# Altium schematic symbol library D.SchLib: 40 symbols
Pins are listed as number, name and electrical type; pins without a type are passive.

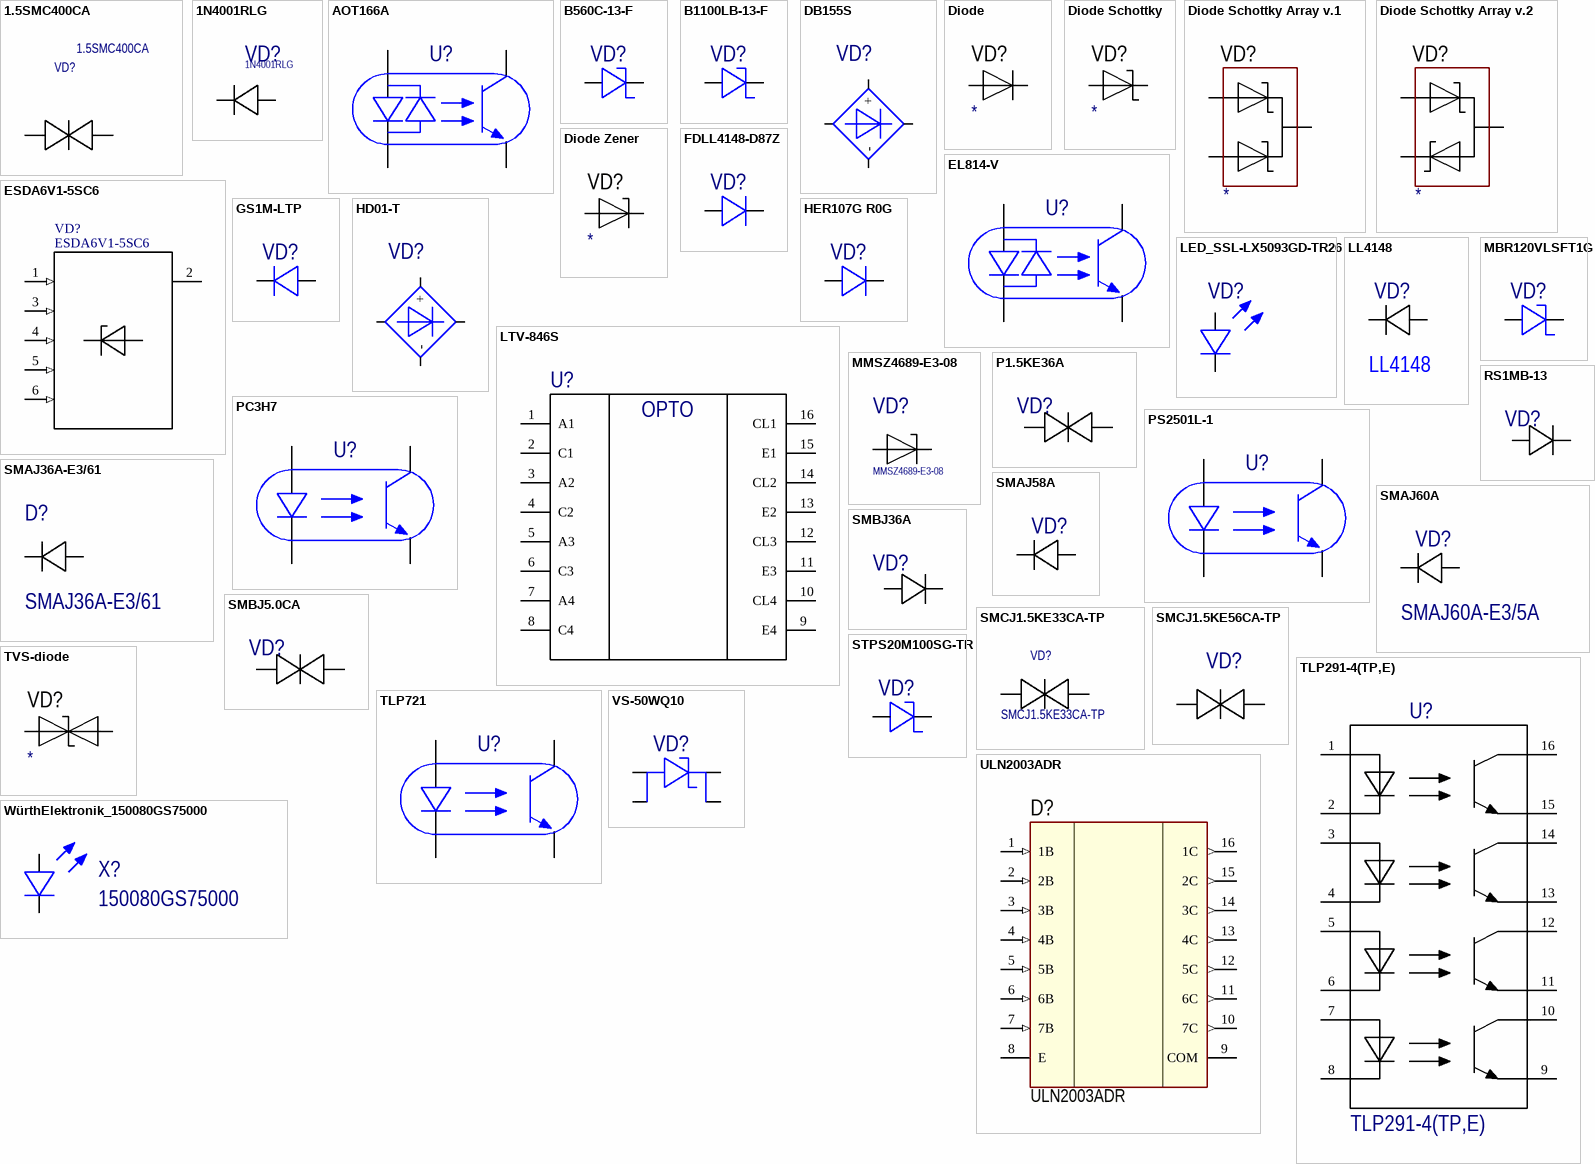
[diagram p0: symbols 1.5SMC400CA to WürthElektronik_150080GS75000]

## 1.5SMC400CA
designator VD?
TVS DIODE 342VWM 548VC SMD; Manufacturer: Littelfuse; Direction: Bidirectional; Reverse Breakdown Voltage: 380V; Operating Supply Voltage: 342V; Max Surge Current: 2.8A; Number of Channels: 1; Clamping Voltage: 548V; Peak Pulse Power: 1.5kW; Power Line Protection: No; Max Breakdown Voltage: 420V; Test Current: 1mA; Max Power Dissipation: 6.5W; Leakage Current: 5uA; Voltage Rating (DC): 400V; Diode Type: ZENER; Supplier 1: Digi-Key; Supplier Part Number 1: 1.5SMC400CACT-ND; Manufacturer Part Number: 1.5SMC400CA; RoHS: Yes; Category: TVS Diodes; Stock: 3917; Pricing: 1=0,98000, 10=0,87600, 100=0,68340, 500=0,56450, 1000=0,44566 (USD); Mount: Surface Mount; Case/Package: DO-214AB; Number of Pins: 2; Min Operating Temperature: -65°C; Max Operating Temperature: 150°C; Packaging: Tape and Reel; Package Quantity: 3000; Breakdown Voltage: 380V; Polarity: Bidirectional; Termination: SMD/SMT; Number of Bidirectional Channels: 1; Reverse Standoff Voltage: 342V; Min Breakdown Voltage: 380V; Number of Elements: 1; Peak Pulse Current: 2.8A; Power Dissipation: 1.5kW; Resistor Type: Zener; Series: 1.5SMC; Clamping Voltage-Max: 548V; Length: 8.13mm; Width: 6.22mm; Height: 2.62mm; Radiation Hardening: No; REACH SVHC: Unknown; Lead Free: Lead Free; RoHS Compliant: Yes; ComponentLink1URL: https://datasheet.ciiva.com/26787/1-5smc400ca-26787617.pdf?src-supplier=IIIC; ComponentLink1Description: https://datasheet.ciiva.com/26787/1-5smc400ca-26787617.pdf?src-supplier=IIIC; ComponentLink2URL: https://datasheet.ciiva.com/1275/littelfuse-tvs-diodes-1-5smc-1275685.pdf?src-supplier=Element14; ComponentLink2Description: https://datasheet.ciiva.com/1275/littelfuse-tvs-diodes-1-5smc-1275685.pdf?src-supplier=Element14; ComponentLink3URL: https://datasheet.ciiva.com/341/littelfuse-tvs-diode-1-5smc-datasheet-pdf-341244.pdf?src-supplier=Digi-Key; ComponentLink3Description: https://datasheet.ciiva.com/341/littelfuse-tvs-diode-1-5smc-datasheet-pdf-341244.pdf?src-supplier=Digi-Key; ComponentLink4URL: https://datasheet.ciiva.com/341/littelfuse-tvs-diode-1-5smc-datasheet-pdf-341245.pdf?src-supplier=Digi-Key; ComponentLink4Description: https://datasheet.ciiva.com/341/littelfuse-tvs-diode-1-5smc-datasheet-pdf-341245.pdf?src-supplier=Digi-Key; ComponentLink5URL: https://datasheet.ciiva.com/16301/littelfuse-tvs-diodes-1-5smc-16301085.pdf?src-supplier=Future+Electronics; ComponentLink5Description: https://datasheet.ciiva.com/16301/littelfuse-tvs-diodes-1-5smc-16301085.pdf?src-supplier=Future+Electronics
footprint SMC
pins: 1, 2

## 1N4001RLG
designator VD?
Diode Switching 50V 1A 2-Pin DO-41 T/R; Manufacturer: ON Semiconductor; Max Surge Current: 30A; Forward Voltage: 1.1V; Max Reverse Current: 10uA; Element Configuration: Single; Polarity: Standard; Diode Type: RECTIFIER; Supplier 1: Digi-Key; Manufacturer Part Number: 1N4001RLG; RoHS: Yes; Category: Rectifier Diodes; Stock 1: 36627; Pricing 1: 1=0,20000, 10=0,14000, 100=0,07580, 500=0,05952, 1000=0,04134, 2000=0,03425 (USD); Case/Package: DO-41; Number of Pins: 2; Contact Plating: Tin,Matte; Min Operating Temperature: -65°C; Max Operating Temperature: 175°C; Forward Current: 1A; Package Quantity: 1; Packaging: Tape and Reel; Average Rectified Current: 1A; Max Repetitive Reverse Voltage (Vrrm): 50V; Peak Non-Repetitive Surge Current: 30A; Max Forward Surge Current (Ifsm): 30A; Voltage Rating (DC): 50V; Current Rating: 1A; Output Current: 1A; Max Reverse Voltage (DC): 50V; Reverse Voltage: 50V; Series: -; Diameter: 2.7mm; Length: 5.2mm; Height: 5.2mm; Radiation Hardening: No; REACH SVHC: No SVHC; Lead Free: Lead Free; Halogen Free: Halogen Free; RoHS Compliant: Yes; ComponentLink1URL: https://datasheet.ciiva.com/30479/0900766b81221291-30479413.pdf?src-supplier=RSComponents; ComponentLink1Description: https://datasheet.ciiva.com/30479/0900766b81221291-30479413.pdf?src-supplier=RSComponents; ComponentLink2URL: https://datasheet.ciiva.com/27050/804480-27050138.pdf?src-supplier=Jameco; ComponentLink2Description: https://datasheet.ciiva.com/27050/804480-27050138.pdf?src-supplier=Jameco; ComponentLink3URL: https://datasheet.ciiva.com/3304/1n4001-d-3304182.pdf?src-supplier=Avnet; ComponentLink3Description: https://datasheet.ciiva.com/3304/1n4001-d-3304182.pdf?src-supplier=Avnet; ComponentLink4URL: https://datasheet.ciiva.com/8299/1n4001-d-8299703.pdf?src-supplier=Avnet; ComponentLink4Description: https://datasheet.ciiva.com/8299/1n4001-d-8299703.pdf?src-supplier=Avnet; ComponentLink5URL: https://datasheet.ciiva.com/915/1n4001-d-915353.pdf?src-supplier=Digi-Key; ComponentLink5Description: https://datasheet.ciiva.com/915/1n4001-d-915353.pdf?src-supplier=Digi-Key; ComponentLink6URL: https://datasheet.ciiva.com/915/1n4001-d-915354.pdf?src-supplier=Digi-Key; ComponentLink6Description: https://datasheet.ciiva.com/915/1n4001-d-915354.pdf?src-supplier=Digi-Key; ComponentLink7URL: https://datasheet.ciiva.com/7962/1n4001-d-7962911.pdf?src-supplier=Element14; ComponentLink7Description: https://datasheet.ciiva.com/7962/1n4001-d-7962911.pdf?src-supplier=Element14; ComponentLink8URL: https://datasheet.ciiva.com/25930/1n4001-d-25930431.pdf?src-supplier=Avnet+Europe; ComponentLink8Description: https://datasheet.ciiva.com/25930/1n4001-d-25930431.pdf?src-supplier=Avnet+Europe; Supplier Part Number 1: 1N4001RLGOSCT-ND
footprint DIOAD1060W80L410D260
footprint DIOAD300W80L410D260_VERTICAL
pins: 1 C, 2 A

## AOT166A
designator U?  (value not drawn)
OPTOISOLATOR TRANSISTOR DIP; Manufacturer: ОАО "Протон"; Manufacturer Part Number: AOT166A; TH: 1
footprint DIP6
pins: 1, 2, 4, 6

## B560C-13-F
designator VD?  (value not drawn)
DIODE SCHOTTKY 60V 5A SMC; Manufacturer: Diodes Incorporated; Manufacturer Part Number: B560C-13-F; SMD: 1
footprint DO-214AB(SMC) (Molded Diode, 2-Leads, Body 7,80x5,90mm, IPC Low Density)
pins: 1, 2

## B1100LB-13-F
designator VD?  (value not drawn)
DIODE SCHOTTKY 100V 1A SMB; Manufacturer: Diodes Incorporated; Manufacturer Part Number: B1100LB-13-F; SMD: 1
footprint DO-214AA(SMB) (Molded Diode, 2-Leads, Body 4,38x3,62mm, IPC Medium Density)
pins: A, K

## DB155S
designator VD?  (value not drawn)
BRIDGE RECT 1P 600V 1.5A DB-1S; Manufacturer: Rectron; Manufacturer Part Number: DB155S; SMD: 1
footprint SOP520P1040X250-4M(DB-LS) (SOP, 4-Leads, Body 8,51x6,50mm, Pitch 5,20mm, IPC Low Density)
pins: 1 ~, 2 ~, 3 +, 4 -

## Diode
designator VD?
Manufacturer: *; Model: *; ComponentKind: *; HelpURL: *
footprint SMA
footprint SMB
footprint SMC
footprint SOD80
footprint SOD123
footprint SOD123F (Schottky Diode, 2-Leads, Body 3x2mm, 0.4W)
footprint SOD123W
footprint SOD323
footprint SOD-80 (MELF Diode, 2-Leads, Body 3,50x1,50mm, IPC Low Density)
footprint SOD-123 (SODFL, 2-Leads, Body 1,55x3,70mm, IPC Medium Density)
footprint SOT23_123 (SOT23, 3-Leads, Body 3,0x2,6mm (max), Pitch 0,95mm, IPC Medium Density)
footprint SOT23_132 (SOT23, 3-Leads, Body 3,0x2,6mm (max), Pitch 0,95mm, IPC Medium Density)
footprint SOT23_231 (SOT23, 3-Leads, Body 3,0x2,6mm (max), Pitch 0,95mm, IPC Medium Density)
footprint SOT23_321 (SOT23, 3-Leads, Body 3,0x2,6mm (max), Pitch 0,95mm, IPC Medium Density)
footprint TO220-2
footprint TO220FPAC
footprint TO247_13 (3-Lead Plastic TO-247)
pins: 1 A, 2 C

## Diode Schottky
designator VD?
Manufacturer: *; ComponentKind: *; Model: *; HelpURL: *
footprint SMA
footprint SMB
footprint SMC
footprint SOD80
footprint SOD123
footprint SOD123F (Schottky Diode, 2-Leads, Body 3x2mm, 0.4W)
footprint SOD123W
footprint SOD323
footprint SOD-80 (MELF Diode, 2-Leads, Body 3,50x1,50mm, IPC Low Density)
footprint SOD-123 (SODFL, 2-Leads, Body 1,55x3,70mm, IPC Medium Density)
footprint SOT23_123 (SOT23, 3-Leads, Body 3,0x2,6mm (max), Pitch 0,95mm, IPC Medium Density)
footprint SOT23_132 (SOT23, 3-Leads, Body 3,0x2,6mm (max), Pitch 0,95mm, IPC Medium Density)
footprint SOT23_231 (SOT23, 3-Leads, Body 3,0x2,6mm (max), Pitch 0,95mm, IPC Medium Density)
footprint SOT23_321 (SOT23, 3-Leads, Body 3,0x2,6mm (max), Pitch 0,95mm, IPC Medium Density)
footprint TO220-2
footprint TO220FPAC
footprint TO247_13 (3-Lead Plastic TO-247)
footprint DO221AA
footprint DPAK - 21 (D-Pak, Body 6,2x6,7mm)
footprint TO220-2 _H
pins: 1 A, 2 C

## Diode Schottky Array v.1
designator VD?
Manufacturer: *; ComponentKind: *; Model: *; HelpURL: *
footprint SOT23_123 (SOT23, 3-Leads, Body 3,0x2,6mm (max), Pitch 0,95mm, IPC Medium Density)
footprint SOT23_132 (SOT23, 3-Leads, Body 3,0x2,6mm (max), Pitch 0,95mm, IPC Medium Density)
footprint SOT23_231 (SOT23, 3-Leads, Body 3,0x2,6mm (max), Pitch 0,95mm, IPC Medium Density)
footprint SOT23_321 (SOT23, 3-Leads, Body 3,0x2,6mm (max), Pitch 0,95mm, IPC Medium Density)
footprint DPAK - 21 (D-Pak, Body 6,2x6,7mm)
footprint D2PAK (D-PAK, 3-Pads, Body 6,2x6,7mm (max), IPC Medium Density)
footprint D2PAK_132 (D-PAK, 3-Pads, Body 6,2x6,7mm (max), IPC Medium Density)
footprint DPAK (D-Pak, Body 6,2x6,7mm)
footprint DPAK_132 (D-Pak, Body 6,2x6,7mm)
pins: 1 A, 2 C, 3 A

## Diode Schottky Array v.2
designator VD?
Manufacturer: *; ComponentKind: *; Model: *; HelpURL: *
footprint SOT23_123 (SOT23, 3-Leads, Body 3,0x2,6mm (max), Pitch 0,95mm, IPC Medium Density)
footprint SOT23_132 (SOT23, 3-Leads, Body 3,0x2,6mm (max), Pitch 0,95mm, IPC Medium Density)
footprint SOT23_231 (SOT23, 3-Leads, Body 3,0x2,6mm (max), Pitch 0,95mm, IPC Medium Density)
footprint SOT23_321 (SOT23, 3-Leads, Body 3,0x2,6mm (max), Pitch 0,95mm, IPC Medium Density)
footprint DPAK - 21 (D-Pak, Body 6,2x6,7mm)
footprint D2PAK (D-PAK, 3-Pads, Body 6,2x6,7mm (max), IPC Medium Density)
footprint D2PAK_132 (D-PAK, 3-Pads, Body 6,2x6,7mm (max), IPC Medium Density)
footprint DPAK (D-Pak, Body 6,2x6,7mm)
footprint DPAK_132 (D-Pak, Body 6,2x6,7mm)
pins: 1 A, 2 AC, 3 C

## Diode Zener
designator VD?
Manufacturer: *; ComponentKind: *; Model: *; HelpURL: *
footprint SMA
footprint SMB
footprint SMC
footprint SOD80
footprint SOD123
footprint SOD123F (Schottky Diode, 2-Leads, Body 3x2mm, 0.4W)
footprint SOD123W
footprint SOD323
footprint SOD-80 (MELF Diode, 2-Leads, Body 3,50x1,50mm, IPC Low Density)
footprint SOD-123 (SODFL, 2-Leads, Body 1,55x3,70mm, IPC Medium Density)
footprint SOT23_123 (SOT23, 3-Leads, Body 3,0x2,6mm (max), Pitch 0,95mm, IPC Medium Density)
footprint SOT23_132 (SOT23, 3-Leads, Body 3,0x2,6mm (max), Pitch 0,95mm, IPC Medium Density)
footprint SOT23_231 (SOT23, 3-Leads, Body 3,0x2,6mm (max), Pitch 0,95mm, IPC Medium Density)
footprint SOT23_321 (SOT23, 3-Leads, Body 3,0x2,6mm (max), Pitch 0,95mm, IPC Medium Density)
footprint DO221AA
footprint DPAK - 21 (D-Pak, Body 6,2x6,7mm)
footprint MELF(DO213AB)
pins: 1 A, 2 C

## EL814-V
designator U?  (value not drawn)
OPTOISOLTR 5KV TRANSISTOR 4-DIP; Manufacturer: Everlight Electronics Co Ltd; Manufacturer Part Number: EL814-V; TH: 1
footprint DIP4
pins: 1, 2, 3, 4

## ESDA6V1-5SC6
designator VD?
TVS DIODE 3V 5 CHANNEL SOT23-6; Manufacturer: STMicroelectronics; MF: {'manufacturer': u'STMicroelectronics'}; Direction: Unidirectional; Number of Elements: 5; Capacitance: 50pF; Reverse Breakdown Voltage: 6.1V; Element Configuration: Common Anode; Peak Pulse Power: 100W; Power Line Protection: No; ESD Protection: Yes; Max Reverse Leakage Current: 1uA; Test Current: 1mA; Max Breakdown Voltage: 7.2V; Clamping Voltage: 11.35V; Peak Pulse Current: 15A; Diode Type: ZENER; Value: *; MP: ESDA6V1-5SC6; Availability: Unavailable; Package: None; Price: None; Supplier 1: Digi-Key; Manufacturer Part Number: ESDA6V1-5SC6; RoHS: Yes; Category: TVS Diodes; Stock 1: 11790; Pricing 1: 1=0,44000, 10=0,37500, 100=0,26070, 500=0,20356, 1000=0,18920 (USD); Mount: Surface Mount; Case/Package: SOT-23; Number of Pins: 6; Min Operating Temperature: -40°C; Max Operating Temperature: 125°C; Package Quantity: 1; Packaging: Tape and Reel; Number of Channels: 5; Operating Supply Voltage: 3V; Number of Unidirectional Channels: 5; Reverse Standoff Voltage: 3V; Min Breakdown Voltage: 6.1V; Polarity: Unidirectional; Breakdown Voltage: 6.1V; Termination: SMD/SMT; Working Voltage: 3V; Max Power Dissipation: 100W; Leakage Current: 1uA; Voltage Rating (DC): 6.1V; Resistor Type: Zener; Series: ESDA, TRANSIL™; Length: 3.05mm; Width: 1.75mm; Height: 1.3mm; Depth: 1.75mm; Radiation Hardening: No; REACH SVHC: No SVHC; Lead Free: Lead Free; RoHS Compliant: Yes; ComponentLink1URL: https://datasheet.ciiva.com/5782/453742-5782854.pdf?src-supplier=Farnell; ComponentLink1Description: https://datasheet.ciiva.com/5782/453742-5782854.pdf?src-supplier=Farnell; ComponentLink2URL: https://datasheet.ciiva.com/15143/getdatasheetpartid-146092-15143750.pdf?src-supplier=Verical; ComponentLink2Description: https://datasheet.ciiva.com/15143/getdatasheetpartid-146092-15143750.pdf?src-supplier=Verical; ComponentLink3URL: https://datasheet.ciiva.com/16210/cd00005102-16210854.pdf?src-supplier=Future+Electronics; ComponentLink3Description: https://datasheet.ciiva.com/16210/cd00005102-16210854.pdf?src-supplier=Future+Electronics; ComponentLink4URL: https://datasheet.ciiva.com/14161/esda6v1l-st-eng-tds-14161530.pdf?src-supplier=Distrelec; ComponentLink4Description: https://datasheet.ciiva.com/14161/esda6v1l-st-eng-tds-14161530.pdf?src-supplier=Distrelec; ComponentLink5URL: https://datasheet.ciiva.com/4507/cd00005102-58005-4507934.pdf?src-supplier=Mouser; ComponentLink5Description: https://datasheet.ciiva.com/4507/cd00005102-58005-4507934.pdf?src-supplier=Mouser; ComponentLink6URL: https://datasheet.ciiva.com/338/cd00005102-338720.pdf?src-supplier=Digi-Key; ComponentLink6Description: https://datasheet.ciiva.com/338/cd00005102-338720.pdf?src-supplier=Digi-Key; ComponentLink7URL: https://datasheet.ciiva.com/22695/453742-22695670.pdf?src-supplier=Element14; ComponentLink7Description: https://datasheet.ciiva.com/22695/453742-22695670.pdf?src-supplier=Element14; ComponentLink8URL: https://datasheet.ciiva.com/7662/453742-7662123.pdf?src-supplier=Element14; ComponentLink8Description: https://datasheet.ciiva.com/7662/453742-7662123.pdf?src-supplier=Element14; ComponentLink9URL: https://datasheet.ciiva.com/1276/453742-1276863.pdf?src-supplier=Element14; ComponentLink9Description: https://datasheet.ciiva.com/1276/453742-1276863.pdf?src-supplier=Element14; ComponentLink10URL: https://datasheet.ciiva.com/41443/001184254-da-01-en-transil-array-esda6v1-5sc6-sot-23-6-stm-41443467.pdf?src-supplier=Conrad; ComponentLink10Description: https://datasheet.ciiva.com/41443/001184254-da-01-en-transil-array-esda6v1-5sc6-sot-23-6-stm-41443467.pdf?src-supplier=Conrad; Supplier Part Number 1: 497-7747-1-ND
footprint SOT95P280X145-6N
pins: 1 IO1 (in), 2 GND (power), 3 IO2 (in), 4 IO3 (in), 5 IO4 (in), 6 IO5 (in)

## FDLL4148-D87Z
designator VD?  (value not drawn)
DIODE GEN PURP 100V 200MA SOD80; Manufacturer: ON Semiconductor; Manufacturer Part Number: FDLL4148-D87Z; SMD: 1
footprint SOD-80 (MELF Diode, 2-Leads, Body 3,50x1,50mm, IPC Low Density)
pins: A, K

## GS1M-LTP
designator VD?  (value not drawn)
DIODE GEN PURP 1KV 1A DO214AC; Manufacturer: Micro Commercial Components (MCC); Manufacturer Part Number: GS1M-LTP; SMD: 1
footprint DO-214AC(SMA) (Molded Diode, 2-Leads, Body 4,29x2,59mm, IPC Low Density)
pins: 1 K, 2 A

## HD01-T
designator VD?  (value not drawn)
BRIDGE RECT 1P 100V 800MA 4-DIP; Manufacturer: Diodes Incorporated; Manufacturer Part Number: HD01-T; SMD: 1
footprint MiniDIP-4 (SOP, 4-Leads, Body 4,70x3,80mm, Pitch 2,54mm, IPC Low Density)
pins: 1 ~, 2 ~, 3 +, 4 -

## HER107G R0G
designator VD?  (value not drawn)
DIODE GEN PURP 800V 1A DO204AL; Manufacturer: Taiwan Semiconductor Corporation; Manufacturer Part Number: HER107G R0G; TH: 1
footprint DO-204AL
pins: A, K

## LED_SSL-LX5093GD-TR26
designator VD?  (value not drawn)
LED GREEN DIFFUSED T-1 3/4 T/H; Manufacturer: Lumex; Manufacturer Part Number: SSL-LX5093GD-TR26; TH: 1
footprint LED500
pins: A, K

## LL4148
designator VD?
ON SEMICONDUCTOR - LL4148 - Small Signal Diode, Single, 100 V, 200 mA, 1 V, 4 ns, 2 A; Reverse Recovery Time: 4ns; Forward Voltage: 1V; Forward Current: 200mA; Peak Non-Repetitive Surge Current: 2A; Max Repetitive Reverse Voltage (Vrrm): 100V; Max Reverse Current: 25nA; Power Dissipation: 500mW; Manufacturer: ON Semiconductor; Manufacturer Part Number: LL4148; SMD: 1; Supplier 1: Digi-Key; RoHS: Yes; Category: Rectifier Diodes; Stock 1: 332564; Pricing 1: 1=0,10000, 10=0,08800, 100=0,03690, 500=0,02894, 1000=0,02010 (USD); Mount: Surface Mount; Number of Pins: 2; Weight: 0.01lb; Contact Plating: Tin,Matte; Min Operating Temperature: -65°C; Max Operating Temperature: 175°C; Packaging: Tape and Reel; Element Configuration: Single; Max Reverse Voltage (DC): 100V; Average Rectified Current: 200mA; Package Quantity: 2500; Max Forward Surge Current (Ifsm): 2A; Max Surge Current: 2A; Recovery Time: 4ns; Voltage: 100V; Reverse Voltage: 100V; Length: 3.6mm; Width: 1.5mm; Height: 1.5mm; Radiation Hardening: No; Lead Free: Lead Free; REACH SVHC: No SVHC; ComponentLink1URL: https://datasheet.ciiva.com/1181/1730036-1181026.pdf?src-supplier=Element14; ComponentLink1Description: https://datasheet.ciiva.com/1181/1730036-1181026.pdf?src-supplier=Element14; ComponentLink2URL: https://datasheet.ciiva.com/8303/ll4148-8303779.pdf?src-supplier=Avnet; ComponentLink2Description: https://datasheet.ciiva.com/8303/ll4148-8303779.pdf?src-supplier=Avnet; ComponentLink3URL: https://datasheet.ciiva.com/27048/94908-27048041.pdf?src-supplier=Jameco; ComponentLink3Description: https://datasheet.ciiva.com/27048/94908-27048041.pdf?src-supplier=Jameco; ComponentLink4URL: https://datasheet.ciiva.com/4453/ll4148-70504-4453114.pdf?src-supplier=Mouser; ComponentLink4Description: https://datasheet.ciiva.com/4453/ll4148-70504-4453114.pdf?src-supplier=Mouser; ComponentLink5URL: https://datasheet.ciiva.com/910/ll4148-910343.pdf?src-supplier=Digi-Key; ComponentLink5Description: https://datasheet.ciiva.com/910/ll4148-910343.pdf?src-supplier=Digi-Key; ComponentLink6URL: https://datasheet.ciiva.com/910/ll4148-910344.pdf?src-supplier=Digi-Key; ComponentLink6Description: https://datasheet.ciiva.com/910/ll4148-910344.pdf?src-supplier=Digi-Key; ComponentLink7URL: https://datasheet.ciiva.com/910/ll4148-910345.pdf?src-supplier=Digi-Key; ComponentLink7Description: https://datasheet.ciiva.com/910/ll4148-910345.pdf?src-supplier=Digi-Key; ComponentLink8URL: https://datasheet.ciiva.com/22735/1896420-22735578.pdf?src-supplier=Element14; ComponentLink8Description: https://datasheet.ciiva.com/22735/1896420-22735578.pdf?src-supplier=Element14; ComponentLink9URL: https://datasheet.ciiva.com/26912/getdatasheetpartid-110057-26912779.pdf?src-supplier=Verical; ComponentLink9Description: https://datasheet.ciiva.com/26912/getdatasheetpartid-110057-26912779.pdf?src-supplier=Verical; ComponentLink10URL: https://datasheet.ciiva.com/8053/1896420-8053645.pdf?src-supplier=Element14; ComponentLink10Description: https://datasheet.ciiva.com/8053/1896420-8053645.pdf?src-supplier=Element14; Supplier Part Number 1: LL4148FSCT-ND
footprint SOD-80 (MELF Diode, 2-Leads, Body 3,50x1,50mm, IPC Low Density)
pins: A, K

## LTV-846S
designator U?
OPTOISOLATOR TRANSISTOR 4 CHANNEL SMD; Manufacturer: Lite-On; Manufacturer Part Number: LTV-846S; TH: 1
footprint LTV846S (SOP, 16-Leads, Body 19,84x6,25mm, Pitch 2,54mm, IPC Low Density)
pins: 1 A1, 2 C1, 3 A2, 4 C2, 5 A3, 6 C3, 7 A4, 8 C4, 9 E4, 10 CL4, 11 E3, 12 CL3, 13 E2, 14 CL2, 15 E1, 16 CL1
text: OPTO

## MBR120VLSFT1G
designator VD?  (value not drawn)
DIODE SCHOTTKY 20V 1A SOD123FL; Manufacturer: ON Semiconductor; Manufacturer Part Number: MBR120VLSFT1G; SMD: 1
footprint SOD-123 (SODFL, 2-Leads, Body 1,55x3,70mm, IPC Medium Density)
pins: A, K

## MMSZ4689-E3-08
designator VD?
DIODE ZENER 5.1V 500MW SOD123; Manufacturer: Vishay; Element Configuration: Single; Max Reverse Leakage Current: 10uA; Voltage Tolerance: 5%; Supplier 1: Avnet; Manufacturer Part Number: MMSZ4689-E3-08; RoHS: Yes; Category: Zener Diodes; Stock 1: 2671; Pricing 1: 1=0,22500, 25=0,18500, 50=0,13300, 100=0,08100, 250=0,07500, 500=0,06800, 1000=0,04800 (USD); Mount: Surface Mount; Number of Pins: 2; Min Operating Temperature: -55°C; Max Operating Temperature: 150°C; Max Power Dissipation: 500mW; Zener Voltage: 5.1V; Packaging: Tape and Reel; Package Quantity: 3000; Zener Current: 10uA; Tolerance: 5%; Power Dissipation: 500mW; Max Reverse Current: 10uA; Working Voltage: 5.1V; Radiation Hardening: No; RoHS Compliant: Yes; REACH SVHC: Unknown; ComponentLink1URL: https://datasheet.ciiva.com/28646/1809889-28646343.pdf?src-supplier=Element14; ComponentLink1Description: https://datasheet.ciiva.com/28646/1809889-28646343.pdf?src-supplier=Element14; ComponentLink2URL: https://datasheet.ciiva.com/24152/mmsz4681-24152103.pdf?src-supplier=Future+Electronics; ComponentLink2Description: https://datasheet.ciiva.com/24152/mmsz4681-24152103.pdf?src-supplier=Future+Electronics; Supplier Part Number 1: 12X8033
footprint SOD123
pins: 1 A, 2 C

## P1.5KE36A
designator VD?  (value not drawn)
TVS DIODE 30.8VWM 64.3VC DO201; Manufacturer: STMicroelectronics; Manufacturer Part Number: 1.5KE36A; TH: 1
footprint DO-201
pins: A, K

## PC3H7
designator U?  (value not drawn)
OPTOISOLATOR TRANSISTOR SMD; Manufacturer: SHARP/Socle Technology; Manufacturer Part Number: PC3H710NIP1H; SMD: 1
footprint SOIC-4 127P680X220-4M (SOIC, 4-Leads, Body 2,60x4,40mm, Pitch 1,27mm, IPC Low Density)
pins: 1, 2, 3, 4

## PS2501L-1
designator U?  (value not drawn)
OPTOISOLATOR TRANSISTOR SMD; Manufacturer: NEC; Manufacturer Part Number: PS2501L-1; SMD: 1
footprint SOP254P960X380-4M-PS2501L-1 (SOP, 4-Leads, Body 4,60x6,50mm, Pitch 2,54mm, IPC Low Density)
pins: 1, 2, 3, 4

## RS1MB-13
designator VD?  (value not drawn)
DIODE GEN PURP 1KV 1A SMB; Manufacturer: Diodes Incorporated; Manufacturer Part Number: RS1MB-13; SMD: 1
footprint DO-214AA(SMB) (Molded Diode, 2-Leads, Body 4,38x3,62mm, IPC Medium Density)
pins: A, K

## SMAJ36A-E3/61
designator D?
DIODE TVS,  SMAJ36A; Manufacturer: Vishay Semiconductors; Clamping Voltage: 58.1V; Peak Pulse Power: 400W; Polarity: Unidirectional; Breakdown Voltage: 40V; Reverse Standoff Voltage: 36V; Peak Pulse Current: 6.9A; Test Current: 1mA; Number of Channels: 1; Leakage Current: 1uA; Element Configuration: Single; Max Breakdown Voltage: 44.2V; Max Forward Surge Current (Ifsm): 40A; Supplier 1: Avnet; Manufacturer Part Number: SMAJ36A-E3/61; RoHS: Yes; Category: TVS Diodes; Stock 1: 5400; Pricing 1: 1800=0,08960, 3600=0,08890, 7200=0,08820, 10800=0,08750, 14400=0,08680, 18000=0,08610, 180000=0,08540 (USD); Case/Package: SMA; Number of Pins: 2; Contact Plating: Tin,Matte; Min Operating Temperature: -55°C; Max Operating Temperature: 150°C; Packaging: Tape and Reel; Max Surge Current: 6.9A; Package Quantity: 1800; Operating Supply Voltage: 36V; Reverse Breakdown Voltage: 40V; Number of Elements: 1; Min Breakdown Voltage: 40V; Termination: SMD/SMT; Max Power Dissipation: 400W; Direction: Unidirectional; Max Reverse Leakage Current: 1uA; Voltage Rating (DC): 36V; Series: SMAJ; Power Dissipation: 400W; Clamping Voltage-Max: 58.1V; Length: 4.5mm; Width: 2.79mm; Height: 2.09mm; Radiation Hardening: No; RoHS Compliant: Yes; Lead Free: Lead Free; REACH SVHC: Unknown; ComponentLink1URL: https://datasheet.ciiva.com/4248/2smaj50a-4248186.pdf?src-supplier=Arrow+Electronics; ComponentLink1Description: https://datasheet.ciiva.com/4248/2smaj50a-4248186.pdf?src-supplier=Arrow+Electronics; ComponentLink2URL: https://datasheet.ciiva.com/26912/getdatasheetpartid-134604-26912416.pdf?src-supplier=Verical; ComponentLink2Description: https://datasheet.ciiva.com/26912/getdatasheetpartid-134604-26912416.pdf?src-supplier=Verical; ComponentLink3URL: https://datasheet.ciiva.com/16371/smaj50a-16371318.pdf?src-supplier=Future+Electronics; ComponentLink3Description: https://datasheet.ciiva.com/16371/smaj50a-16371318.pdf?src-supplier=Future+Electronics; ComponentLink4URL: https://datasheet.ciiva.com/4508/smaj50a-241759-4508311.pdf?src-supplier=Mouser; ComponentLink4Description: https://datasheet.ciiva.com/4508/smaj50a-241759-4508311.pdf?src-supplier=Mouser; ComponentLink5URL: https://datasheet.ciiva.com/26322/548547-26322554.pdf?src-supplier=Element14; ComponentLink5Description: https://datasheet.ciiva.com/26322/548547-26322554.pdf?src-supplier=Element14; Supplier Part Number 1: SMAJ36A-E3/61
footprint DO-214AC(SMA) (Molded Diode, 2-Leads, Body 4,29x2,59mm, IPC Low Density)
pins: 1 K, 2 A

## SMAJ58A
designator VD?  (value not drawn)
TVS DIODE 58V 93.6V DO214AC; Manufacturer Part Number: SMAJ58A; Manufacturer: Bourns; SMD: 1
footprint DO-214AC(SMA) (Molded Diode, 2-Leads, Body 4,29x2,59mm, IPC Low Density)
pins: 1 K, 2 A

## SMAJ60A
designator VD?, comment SMAJ60A-E3/5A
TRANSIENT SUPPRESSOR DIODE,SINGLE,UNIDIRECTIONAL,60V V(RWM),DO-214AC / SMA; Manufacturer: Vishay Semiconductors; Clamping Voltage: 96.8V; Peak Pulse Power: 400W; Peak Pulse Current: 4.1A; Breakdown Voltage: 66.7V; Test Current: 1mA; Number of Elements: 1; Leakage Current: 1uA; Power Line Protection: No; Diode Type: ZENER; Max Breakdown Voltage: 73.7V; Max Forward Surge Current (Ifsm): 40A; Clamping Voltage-Max: 96.8kV; Manufacturer Part Number: SMAJ60A-E3/5A; Supplier 1: Mouser; RoHS: Yes; Category: TVS Diodes; Stock 1: 4121; Pricing 1: 1=0,36000, 10=0,25600, 50=0,25600, 100=0,14900, 1000=0,09000, 10000=0,06900 (USD); Case/Package: DO-214AC; Number of Pins: 2; Min Operating Temperature: -55°C; Max Operating Temperature: 150°C; Packaging: Tape and Reel; Polarity: Unidirectional; Reverse Standoff Voltage: 60V; Package Quantity: 7500; Max Surge Current: 4.1A; Min Breakdown Voltage: 66.7V; Reverse Breakdown Voltage: 66.7V; Operating Supply Voltage: 60V; Number of Channels: 1; Series: TransZorb®; Direction: Unidirectional; Number of Unidirectional Channels: 1; Max Reverse Leakage Current: 1uA; Element Configuration: Single; Resistor Type: Zener; Power Dissipation: 400W; RoHS Compliant: Yes; Lead Free: Lead Free; ComponentLink1URL: https://datasheet.ciiva.com/4514/smaj50a-241759-4514843.pdf?src-supplier=Mouser; ComponentLink1Description: https://datasheet.ciiva.com/4514/smaj50a-241759-4514843.pdf?src-supplier=Mouser; ComponentLink2URL: https://datasheet.ciiva.com/16487/smaj50a-16487486.pdf?src-supplier=Future+Electronics; ComponentLink2Description: https://datasheet.ciiva.com/16487/smaj50a-16487486.pdf?src-supplier=Future+Electronics; Supplier Part Number 1: 625-SMAJ60A-E3/5A
footprint DO-214AC(SMA) (Molded Diode, 2-Leads, Body 4,29x2,59mm, IPC Low Density)
pins: 1 K, 2 A

## SMBJ5.0CA
designator VD?  (value not drawn)
TVS DIODE 5V 9.2V SMB; Manufacturer: Bourns; Manufacturer Part Number: SMBJ5.0CA; SMD: 1
footprint DO-214AA(SMB) (Molded Diode, 2-Leads, Body 4,38x3,62mm, IPC Medium Density)
pins: A, K

## SMBJ36A
designator VD?  (value not drawn)
TVS DIODE 36VWM 58.1VC SMB; Manufacturer: Taiwan Semiconductor Corporation; Manufacturer Part Number: SMBJ36A; SMD: 1
footprint DO-214AA(SMB) (Molded Diode, 2-Leads, Body 4,38x3,62mm, IPC Medium Density)
pins: A, K

## SMCJ1.5KE33CA-TP
designator VD?
TVS DIODE 28.2VWM 45.7VC SMC; Manufacturer: MCC; Max Surge Current: 33.3A; Reverse Breakdown Voltage: 31.4V; Number of Bidirectional Channels: 1; Reverse Standoff Voltage: 28.2V; Clamping Voltage: 45.7V; Peak Pulse Power: 1.5kW; Power Line Protection: No; Breakdown Voltage: 34.7V; Polarity: Bidirectional; Test Current: 1mA; Leakage Current: 5uA; Diode Type: ZENER; Supplier 1: Digi-Key; Supplier Part Number 1: 353-SMCJ1.5KE33CA-TPCT-ND; Manufacturer Part Number: SMCJ1.5KE33CA-TP; RoHS: Yes; Category: TVS Diodes; Stock: 1809; Pricing: 1=0,66000, 10=0,56900, 100=0,42500, 500=0,33396, 1000=0,25806 (USD); Mount: Surface Mount; Case/Package: DO-214AB; Number of Pins: 2; Min Operating Temperature: -55°C; Max Operating Temperature: 175°C; Package Quantity: 1; Packaging: Tape and Reel; Min Breakdown Voltage: 31.4V; Number of Channels: 1; Termination: SMD/SMT; Number of Elements: 1; Peak Pulse Current: 33.3A; Resistor Type: Zener; Series: -; RoHS Compliant: Yes; ComponentLink1URL: https://datasheet.ciiva.com/335/smcj1-5ke6-8ca-smcj1-5ke550cado-214ab-335856.pdf?src-supplier=Digi-Key; ComponentLink1Description: https://datasheet.ciiva.com/335/smcj1-5ke6-8ca-smcj1-5ke550cado-214ab-335856.pdf?src-supplier=Digi-Key; ComponentLink2URL: https://datasheet.ciiva.com/335/smcj1-5ke6-8ca-smcj1-5ke550cado-214ab-335854.pdf?src-supplier=Digi-Key; ComponentLink2Description: https://datasheet.ciiva.com/335/smcj1-5ke6-8ca-smcj1-5ke550cado-214ab-335854.pdf?src-supplier=Digi-Key; ComponentLink3URL: https://datasheet.ciiva.com/335/smcj1-5ke6-8ca-smcj1-5ke550cado-214ab-335855.pdf?src-supplier=Digi-Key; ComponentLink3Description: https://datasheet.ciiva.com/335/smcj1-5ke6-8ca-smcj1-5ke550cado-214ab-335855.pdf?src-supplier=Digi-Key
footprint SMC
pins: 1, 2

## SMCJ1.5KE56CA-TP
designator VD?  (value not drawn)
TVS DIODE 47.8V 77V DO214AB; Manufacturer: Micro Commercial Co; Manufacturer Part Number: SMCJ1.5KE56CA-TP; TH: 1
footprint DO-214AB(SMC) (Molded Diode, 2-Leads, Body 7,80x5,90mm, IPC Low Density)
pins: 1, 2

## STPS20M100SG-TR
designator VD?  (value not drawn)
DIODE SCHOTTKY 100V 20A D2PAK; Manufacturer: STMicroelectronics; Manufacturer Part Number: STPS20M100SG-TR; SMD: 1
footprint DPAK254P1542X460-3M (D2-PAK, 3-Pads, Body 7,10x8,64mm (max), IPC Low Density)
pins: 1 A, 3 A, 4 K

## TLP291-4(TP,E)
designator U?
OPTOISOLTR 2.5KV 4CH TRANS 16-SO; Manufacturer: Toshiba; TH: 1; Current Transfer Ratio: 400%; Collector Emitter Voltage (VCEO): 80V; Forward Current: 50mA; Number of Elements: 4; Power Dissipation: 170mW; Reverse Breakdown Voltage: 5V; Forward Voltage: 1.4V; Collector Emitter Saturation Voltage: 400mV; Manufacturer Part Number: TLP291-4(TP,E); Supplier 1: Digi-Key; RoHS: Yes; Category: Optocouplers; Stock 1: 16473; Pricing 1: 1=1,03000, 10=0,65000, 100=0,48100, 500=0,44200, 1000=0,36400 (USD); Mount: Surface Mount; Case/Package: SO; Number of Pins: 16; Min Operating Temperature: -55°C; Max Operating Temperature: 110°C; Packaging: Tape and Reel; Package Quantity: 1; Number of Channels: 4; Max Power Dissipation: 170mW; Max Collector Current: 50mA; Max Output Voltage: 80V; Max Input Current: 50mA; Max Output Current: 50mA; Max Input Voltage: 1.4V; Output Voltage: 80V; Radiation Hardening: No; ComponentLink1URL: https://datasheet.ciiva.com/4701/tlp291-4-204553-4701782.pdf?src-supplier=Mouser; ComponentLink1Description: https://datasheet.ciiva.com/4701/tlp291-4-204553-4701782.pdf?src-supplier=Mouser; ComponentLink2URL: https://datasheet.ciiva.com/41859/half-pitch4-chtransphotocouplersref-41859910.pdf?src-supplier=Digi-Key; ComponentLink2Description: https://datasheet.ciiva.com/41859/half-pitch4-chtransphotocouplersref-41859910.pdf?src-supplier=Digi-Key; Supplier Part Number 1: TLP291-4(TPE)CT-ND
footprint SOIC127P700X220-16M (SOIC, 16-Leads, Body 10,30x4,60mm, Pitch 1,27mm, IPC Low Density)
pins: 1, 2, 3, 4, 5, 6, 7, 8, 9, 10, 11, 12, 13, 14, 15, 16

## TLP721
designator U?
OPTOISOLATOR TRANSISTOR SMD; Manufacturer: Toshiba; Manufacturer Part Number: TLP721; TH: 1
footprint DIP4
pins: 1, 2, 3, 4

## TVS-diode
designator VD?
Manufacturer: *; ComponentKind: *; Model: *; HelpURL: *
footprint SMA
footprint SMB
footprint SMC
footprint SOD80
footprint SOD123
footprint SOD123F (Schottky Diode, 2-Leads, Body 3x2mm, 0.4W)
footprint SOD123W
footprint SOD323
footprint SOD-80 (MELF Diode, 2-Leads, Body 3,50x1,50mm, IPC Low Density)
footprint SOD-123 (SODFL, 2-Leads, Body 1,55x3,70mm, IPC Medium Density)
footprint SOT23_123 (SOT23, 3-Leads, Body 3,0x2,6mm (max), Pitch 0,95mm, IPC Medium Density)
footprint SOT23_132 (SOT23, 3-Leads, Body 3,0x2,6mm (max), Pitch 0,95mm, IPC Medium Density)
footprint SOT23_231 (SOT23, 3-Leads, Body 3,0x2,6mm (max), Pitch 0,95mm, IPC Medium Density)
footprint SOT23_321 (SOT23, 3-Leads, Body 3,0x2,6mm (max), Pitch 0,95mm, IPC Medium Density)
pins: 1 A, 2 C

## ULN2003ADR
designator D?
Bipolar Transistor Array 7 NPN Darlington 50V; Manufacturer: Texas Instruments; ComponentKind: IC PWR RELAY 7NPN 1:1 16SOIC; HelpURL: https://www.digikey.com/product-detail/en/texas-instruments/ULN2003ADR/296-1368-2-ND/277011; Model: ULN2003ADR
footprint 16-SOIC (W)
pins: 1 1B (in), 2 2B (in), 3 3B (in), 4 4B (in), 5 5B (in), 6 6B (in), 7 7B (in), 8 E (power), 9 COM (power), 10 7C (out), 11 6C (out), 12 5C (out), 13 4C (out), 14 3C (out), 15 2C (out), 16 1C (out)

## VS-50WQ10
designator VD?  (value not drawn)
DIODE SCHOTTKY 100V 5.5A DPAK; Manufacturer: Vishay Semiconductor Diodes Division; Manufacturer Part Number: VS-50WQ10FN; SMD: 1
footprint DPAK (TO-252AA) (D-PAK, 3-Pads, Body 6,21x6,73mm (max), IPC Low Density)
pins: 1, 2, 3, 4

## WürthElektronik_150080GS75000
designator X?, comment 150080GS75000
SMD LED green 3.5 V 0805, 150080GS75000, Würth Elektronik; Manufacturer: Wurth Electronics; Viewing Angle: 140°; Lens Style: Clear,Rectangular; Luminous Intensity: 450mcd; Forward Voltage: 3.2V; Wavelength: 520nm; Forward Current: 30mA; Test Current: 20mA; Manufacturer Part Number: 150080GS75000; Supplier 1: Digi-Key; RoHS: Yes; Category: LEDs; Stock 1: 18864; Pricing 1: 1=0,18000, 50=0,16500, 100=0,14200, 500=0,12300 (USD); Mount: Surface Mount; Case/Package: 0805; Color: Green; Case Code (Metric): 2012; Case Code (Imperial): 0805; Min Operating Temperature: -40°C; Max Operating Temperature: 85°C; Package Quantity: 4000; Packaging: Cut Tape; Dominant Wavelength: 520nm; Length: 2mm; Width: 1.25mm; Height: 0.7mm; REACH SVHC: Unknown; ComponentLink1URL: https://datasheet.ciiva.com/29563/150080gs75000-29563008.pdf?src-supplier=Digi-Key; ComponentLink1Description: https://datasheet.ciiva.com/29563/150080gs75000-29563008.pdf?src-supplier=Digi-Key; ComponentLink2URL: https://datasheet.ciiva.com/29279/759434-da-01-en-chipled-0805-w-kl-gruen-150080gs75000-29279039.pdf?src-supplier=Conrad; ComponentLink2Description: https://datasheet.ciiva.com/29279/759434-da-01-en-chipled-0805-w-kl-gruen-150080gs75000-29279039.pdf?src-supplier=Conrad; Supplier Part Number 1: 732-4983-1-ND
pins: A, K